# Altium schematic symbol library Connector.SchLib: 222 symbols (part 1 of 2)
Pins are listed as number, name and electrical type; pins without a type are passive.

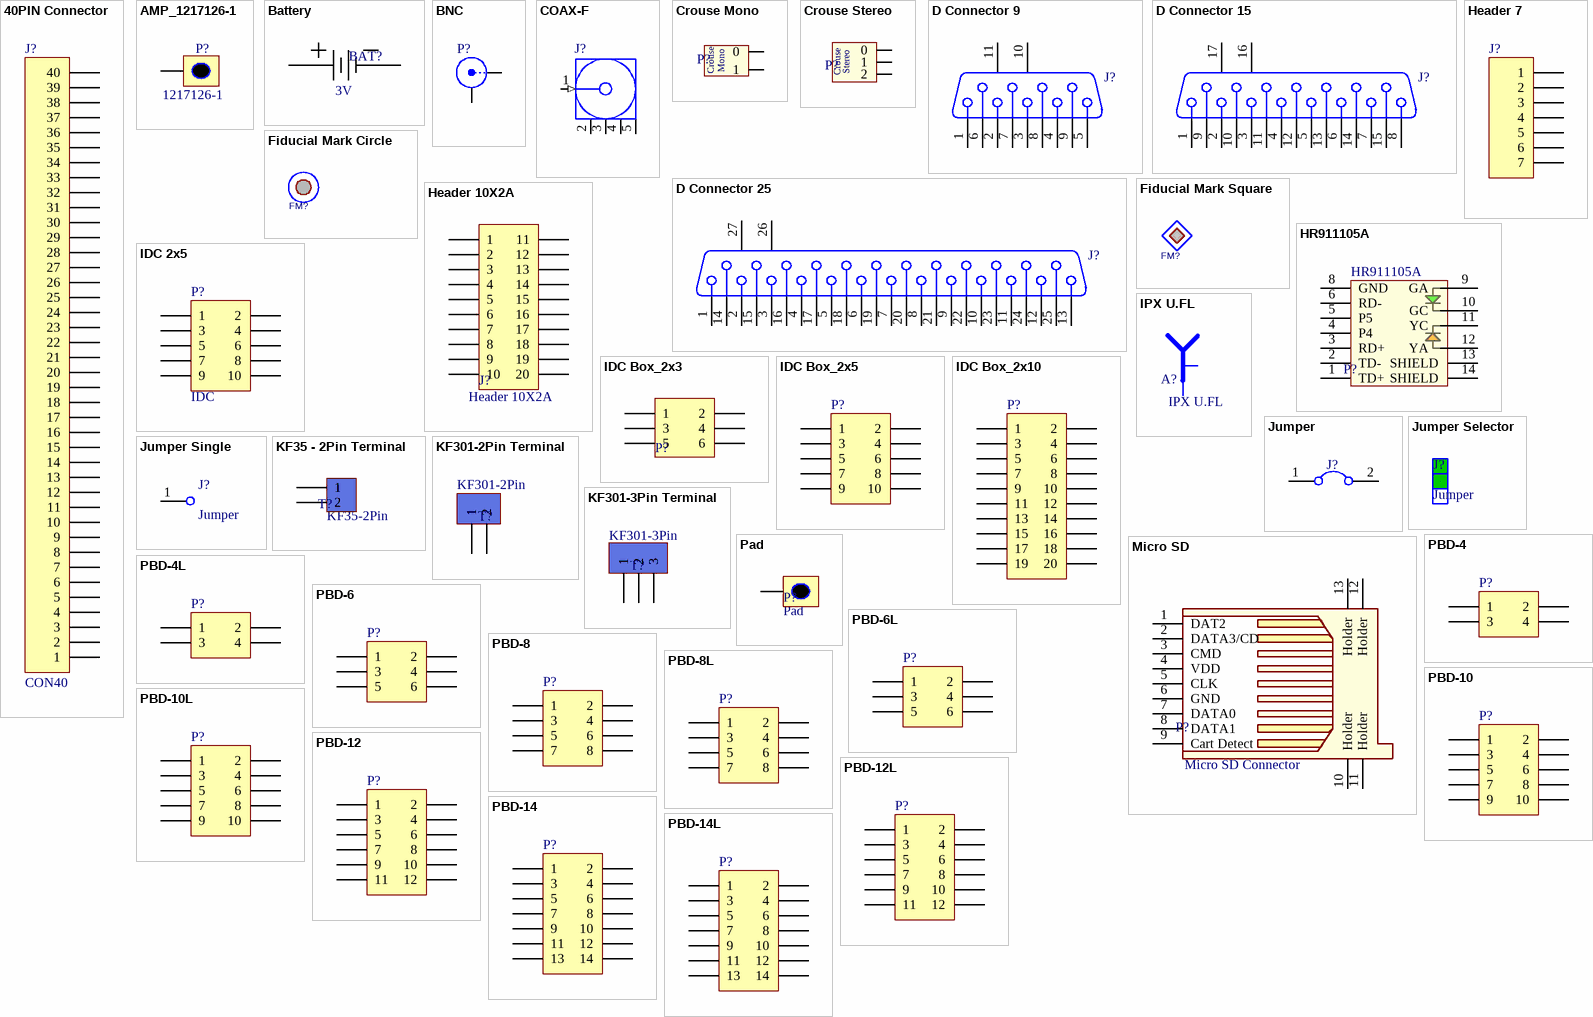
[diagram p0: symbols 40PIN Connector to PBD-14L]

## 40PIN Connector
designator J?, comment CON40
40 pin Automotive Connector; Value: CON40
footprint PARS_40PIN
pins: 1, 2, 3, 4, 5, 6, 7, 8, 9, 10, 11, 12, 13, 14, 15, 16, 17, 18, 19, 20, 21, 22, 23, 24, 25, 26, 27, 28, 29, 30, 31, 32, 33, 34, 35, 36, 37, 38, 39, 40

## AMP_1217126-1
designator P?, comment 1217126-1
AMP 0.250" (6.35mm) Quick Connect Male Solder Connector Non-Insulated; Specification: TE Connectivity FASTON 250 1217126-1 PCB TAB; PartNumber: 1217126-1; Temperature Range: -30°C to 110°C; Warehouse Number: *; Package: Through Hole
footprint AMP_Connector_1217126-1 (0.250" (6.35mm) Quick Connect Male Solder Connector Non-Insulated)
pins: 1

## Battery
designator BAT?, comment 3V
Battery 3V Backup; Value: 3V
footprint MS621 (Micro Li-ion rechargable battery)
footprint CR2032
pins: 0, 1

## BNC
designator P?
BNC Elbow Connector; LatestRevisionDate: 17-Jul-2002; LatestRevisionNote: Re-released for DXP Platform.; Publisher: Altium Limited
footprint BNC_RA CON (Connector; BNC Elbow)
signal-integrity model Connector
pins: 1 X, 2 Y

## COAX-F
designator J?
RF Coaxial PCB Connector, MCX; Thru-Hole, Right-Angle Mount Socket, Blunt Post Terminal, 50 Ohm Impedance; PCB_Layout: Complies with manufacturer's recommendation.; DrillSize: Corresponds to nominal value.; Published: 15-Jul-2004; LatestRevisionDate: 15-Jul-2004; LatestRevisionNote: Component Replaced.; DatasheetDocument: 30-May-2003; PackageDocument: 04-Jul-1999; PackageReference: 919-119J-51AX; Publisher: Altium Limited; ComponentLink1Description: Manufacturer Link; ComponentLink1URL: http://www.amphenolrf.com/
footprint MCX5.08-H5 (Connector; RF Coaxial, MCX, Thru-Hole; 5 Position; Right-Angle)
pins: 1 Signal (in) "Signal Pin", 2 GND (power), 3 GND (power), 4 GND (power), 5 GND (power)

## Crouse Mono
designator P?, comment Audio Connector Crouse Model  (value not drawn)
Audio Connector; Value: Audio Connector Crouse Model
footprint Crouse Mono
pins: 0, 1
text: Crouse; Mono

## Crouse Stereo
designator P?, comment Audio Connector Crouse Model  (value not drawn)
Audio Connector; Value: Audio Connector Crouse Model
footprint Crouse Streao
pins: 0, 1, 2
text: Crouse; Stereo

## D Connector 9
designator J?
Receptacle Assembly, 9 Position, Right Angle; PackageDocument: O; Positions: 9; Published: 15-Jun-2001; LatestRevisionDate: 17-Jul-2002; LatestRevisionNote: Re-released for DXP Platform.; DatasheetDocument: 1-Sep-1999; PackageReference: 788750; Publisher: Altium Limited; Orientation: Right Angle; Gender: Receptacle
footprint DSUB1.385-2H9 (Connector; D Subminiature; 9 Position; Right Angle; Pitch 1.385 mm)
signal-integrity model Connector
pins: 1, 2, 3, 4, 5, 6, 7, 8, 9, 10 MH1, 11 MH2

## D Connector 15
designator J?
Receptacle Assembly, 15 Position, Right Angle; PackageDocument: O; Positions: 15; Published: 15-Jun-2001; LatestRevisionDate: 17-Jul-2002; LatestRevisionNote: Re-released for DXP Platform.; DatasheetDocument: 1-Sep-99; PackageReference: 788757; Publisher: Altium Limited; Orientation: Right Angle; Gender: Receptacle
footprint DSUB1.385-2H15 (Connector; D Subminiature; 15 Position; Right Angle; Pitch 1.385 mm)
signal-integrity model Connector
pins: 1, 2, 3, 4, 5, 6, 7, 8, 9, 10, 11, 12, 13, 14, 15, 16 MH1, 17 MH2

## D Connector 25
designator J?
Receptacle Assembly, 25 Position, Right Angle; PackageDocument: U; Positions: 25; Published: 15-Jun-2001; LatestRevisionDate: 17-Jul-2002; LatestRevisionNote: Re-released for DXP Platform.; DatasheetDocument: 19-Mar-1999; PackageReference: 787202; Publisher: Altium Limited; Orientation: Right Angle; Gender: Receptacle
footprint DSUB1.385-2H25A (Connector; D Subminiature; 25 Position; Right Angle; Pitch 1.385 mm)
signal-integrity model Connector
pins: 1, 2, 3, 4, 5, 6, 7, 8, 9, 10, 11, 12, 13, 14, 15, 16, 17, 18, 19, 20, 21, 22, 23, 24, 25, 26 MH1, 27 MH2

## Fiducial Mark Circle
designator FM?  (value not drawn)  (no BOM)
Fiducial , Circle Fiducial 1.5mm,1.5mm; Type/Material: SMD; Component Name: Fiducial , Circle Fiducial 1.5mm; Size: 1.5mm; Status: Valid For SCH
footprint FIDUCIAL MARK CIRCLE

## Fiducial Mark Square
designator FM?, comment FIDUCIAL MARK SQUARE  (value not drawn)  (no BOM)
Fiducial , Square Fiducial 1.5mm,1.5mm; Type/Material: SMD; Component Name: Fiducial , Square Fiducial 1.5mm; Size: 1.5mm; Status: Valid For SCH
footprint FIDUCIAL MARK SQUARE

## Header 7
designator J?
Header, 7-Pin; LatestRevisionDate: 17-Jul-2002; LatestRevisionNote: Re-released for DXP Platform.; Publisher: Altium Limited
footprint 206_Header 7
pins: 1, 2, 3, 4, 5, 6, 7

## Header 10X2A
designator J?
Header, 10-Pin, Dual row; Value: Header 10X2A
footprint 206_Header 10X2A
pins: 1, 2, 3, 4, 5, 6, 7, 8, 9, 10, 11, 12, 13, 14, 15, 16, 17, 18, 19, 20

## HR911105A
designator P?
Value: HR911105A
footprint HR911105A
pins: 1 TD+, 2 TD-, 3 RD+, 4 P4, 5 P5, 6 RD-, 8 GND (power), 9 GA   , 10 GC   , 11 YC   , 12 YA   , 13 SHIELD, 14 SHIELD

## IDC 2x5
designator P?, comment IDC
Header, 5-Pin, Dual row; LatestRevisionDate: 17-Jul-2002; LatestRevisionNote: Re-released for DXP Platform.; Publisher: Altium Limited
signal-integrity model Connector
footprint IDC2.54-V10D (Connector; IDC, Low Profile Male Header, Thru-Hole; 10 Position; Vertical; Pitch 2.54 mm; Body 20.32 x 9.2 x 9.45 mm (LxWxH))
footprint IDC2.54-H10C (Connector; IDC, Low Profile Male Header, Thru-Hole; 10 Position; Right Angle; Pitch 2.54 mm; Body 20.32 x 8.9 x 9.2 mm (LxWxH))
pins: 1, 2, 3, 4, 5, 6, 7, 8, 9, 10

## IDC Box_2x3
designator P?, comment IDC-6MS(BH-6)  (value not drawn)
Header Box, 5-Pin, Dual row; LatestRevisionDate: 17-Jul-2002; LatestRevisionNote: Re-released for DXP Platform.; Publisher: Altium Limited
footprint -IDC_2X3 (IDC2X3 FOR PROGPIN AND JUMPER BOX AND ETC. DESIGNER ABBAS BASEREH)
footprint -IDC_2X3R (IDC2X3 FOR PROGPIN AND JUMPER BOX AND ETC. DESIGNER ABBAS BASEREH)
pins: 1, 2, 3, 4, 5, 6

## IDC Box_2x5
designator P?, comment IDC-10MS(BH-10)  (value not drawn)
Header Box, 5-Pin, Dual row; LatestRevisionDate: 17-Jul-2002; LatestRevisionNote: Re-released for DXP Platform.; Publisher: Altium Limited
footprint -IDC2.54-10PIN - CROSS (Connector; IDC, Low Profile Male Header, Thru-Hole; 10 Position; Vertical; Pitch 2.54 mm; 20.32 x 9.2 x 9.45 mm (LxWxH) DESIGNER : ABBAS BASEREH)
footprint -IDC2.54-10PIN (Connector; IDC, Low Profile Male Header, Thru-Hole; 10 Position; Vertical; Pitch 2.54 mm; 20.32 x 9.2 x 9.45 mm (LxWxH) DESIGNER : ABBAS BASEREH)
footprint -IDC2.54-10PIN WITH CABLE (Connector; IDC, Low Profile Male Header, Thru-Hole; 10 Position; Vertical; Pitch 2.54 mm; 20.32 x 9.2 x 9.45 mm (LxWxH) DESIGNER : ABBAS BASEREH)
pins: 1, 2, 3, 4, 5, 6, 7, 8, 9, 10

## IDC Box_2x10
designator P?, comment IDC-20MS(BH-20)  (value not drawn)
Header Box, 10-Pin, Dual row; LatestRevisionDate: 17-Jul-2002; LatestRevisionNote: Re-released for DXP Platform.; Publisher: Altium Limited
footprint -IDC2.54-BH-20 (Connector; Header; 10x2 Position)
pins: 1, 2, 3, 4, 5, 6, 7, 8, 9, 10, 11, 12, 13, 14, 15, 16, 17, 18, 19, 20

## IPX U.FL
designator A?
GSM Anttena; Value: IPX U.FL
footprint IPX U.FL
pins: 0, 1

## Jumper
designator J?  (value not drawn)
Jumper -; Company: E.P.I.L; Defualt State: Close; Design Date: 2011/11/02
footprint Jumper Small - 2.54 - BLUE
footprint Jumper Small - 2.54 - GRAY
footprint Jumper Small - 2.54 - RED
footprint Jumper Small - 2.54 - GRAY - Open
footprint Jumper SMD - Small
footprint Jumper 5mm (Designer Abbas Basereh)
footprint Jumper 4mm (Designer Abbas Basereh)
footprint Jumper 6mm (Designer Abbas Basereh)
footprint Jumper 8mm (Designer Abbas Basereh)
footprint Jumper 10mm (Designer Abbas Basereh)
pins: 1, 2

## Jumper Selector
designator J?, comment Jumper
Jumper Selector
footprint jumper selector
footprint Jumper Selector SMD
pins: 1, 2, 3

## Jumper Single
designator J?, comment Jumper
footprint Jumper SMD - single
pins: 1

## KF35 - 2Pin Terminal
designator T?, comment KF35-2Pin
Terminal 2 Pin 300V 20A; Value: KF35-2Pin
footprint KF 35 (KF8500)-2Pin
pins: 1, 2

## KF301-2Pin Terminal
designator T?, comment KF301-2Pin
Terminal 2 Pin 250VAC 16A; Value: KF301-2Pin
footprint KF301 2PIN (Designer Abbas Basereh)
pins: 1, 2

## KF301-3Pin Terminal
designator T?, comment KF301-3Pin
Terminal 3 Pin 250VAC 16A; Value: KF301-3Pin
footprint KF301 3PIN (Designer Abbas Basereh)
pins: 1, 2, 3

## Micro SD
designator P?, comment Micro SD Connector  (no BOM)
value: Micro SD Connector
footprint Micro SD
pins: 1 DAT2, 2 DATA3/CD, 3 CMD, 4 VDD, 5 CLK, 6 GND, 7 DATA0, 8 DATA1, 9 Cart Detect, 10 Holder, 11 Holder, 12 Holder, 13 Holder

## Pad
designator P?
THD pad, 1-Pin; Value: Pad
footprint Single Pad 2
footprint Single Pad 1
footprint Wire_SMD_ 0.5 (0.5 * 0.5)
footprint Wire_SMD_1 (1*1)
footprint Wire_SMD_ 1.5 (1.5 * 1.5)
footprint Wire_SMD_2 (2 * 2)
footprint FAN_SINGLE_PIN
footprint PCB Tab Male (6.35*8.00*14.00)
pins: 1

## PBD-4
designator P?  (value not drawn)
Header, 2-Pin, Dual row; LatestRevisionDate: 17-Jul-2002; LatestRevisionNote: Re-released for DXP Platform.; Publisher: Altium Limited
footprint PBD-4-3D (Connector; Header; 2x2 Position)
pins: 1, 2, 3, 4

## PBD-4L
designator P?  (value not drawn)
Header, 2-Pin, Dual row; LatestRevisionDate: 17-Jul-2002; LatestRevisionNote: Re-released for DXP Platform.; Publisher: Altium Limited
footprint PBD-4RL (Connector; Header; 2x2 Position)
pins: 1, 2, 3, 4

## PBD-6
designator P?  (value not drawn)
Header, 3-Pin, Dual row; LatestRevisionDate: 17-Jul-2002; LatestRevisionNote: Re-released for DXP Platform.; Publisher: Altium Limited
footprint PBD-6-3D (Connector; Header; 3x2 Position)
pins: 1, 2, 3, 4, 5, 6

## PBD-6L
designator P?  (value not drawn)
Header, 3-Pin, Dual row; LatestRevisionDate: 17-Jul-2002; LatestRevisionNote: Re-released for DXP Platform.; Publisher: Altium Limited
footprint PBD-6RL (Connector; Header; 3x2 Position)
pins: 1, 2, 3, 4, 5, 6

## PBD-8
designator P?  (value not drawn)
Header, 4-Pin, Dual row
footprint PBD-8-3D (Connector; Header; 4x2 Position)
pins: 1, 2, 3, 4, 5, 6, 7, 8

## PBD-8L
designator P?  (value not drawn)
Header, 4-Pin, Dual row
footprint PBD-8RL (Connector; Header; 4x2 Position)
pins: 1, 2, 3, 4, 5, 6, 7, 8

## PBD-10
designator P?  (value not drawn)
Header, 5-Pin, Dual row
footprint PBD-10-3D (Connector; Header; 5x2 Position)
pins: 1, 2, 3, 4, 5, 6, 7, 8, 9, 10

## PBD-10L
designator P?  (value not drawn)
Header, 5-Pin, Dual row
footprint PBD-10RL (Connector; Header; 5x2 Position)
pins: 1, 2, 3, 4, 5, 6, 7, 8, 9, 10

## PBD-12
designator P?  (value not drawn)
Header, 6-Pin, Dual row; LatestRevisionDate: 17-Jul-2002; LatestRevisionNote: Re-released for DXP Platform.; Publisher: Altium Limited
footprint PBD-12-3D (Connector; Header; 6x2 Position)
pins: 1, 2, 3, 4, 5, 6, 7, 8, 9, 10, 11, 12

## PBD-12L
designator P?  (value not drawn)
Header, 6-Pin, Dual row; LatestRevisionDate: 17-Jul-2002; LatestRevisionNote: Re-released for DXP Platform.; Publisher: Altium Limited
footprint PBD-12RL (Connector; Header; 6x2 Position)
pins: 1, 2, 3, 4, 5, 6, 7, 8, 9, 10, 11, 12

## PBD-14
designator P?  (value not drawn)
Header, 7-Pin, Dual row; LatestRevisionDate: 17-Jul-2002; LatestRevisionNote: Re-released for DXP Platform.; Publisher: Altium Limited
footprint PBD-14-3D (Connector; Header; 7x2 Position)
pins: 1, 2, 3, 4, 5, 6, 7, 8, 9, 10, 11, 12, 13, 14

## PBD-14L
designator P?  (value not drawn)
Header, 7-Pin, Dual row; LatestRevisionDate: 17-Jul-2002; LatestRevisionNote: Re-released for DXP Platform.; Publisher: Altium Limited
footprint PBD-14RL (Connector; Header; 7x2 Position)
pins: 1, 2, 3, 4, 5, 6, 7, 8, 9, 10, 11, 12, 13, 14

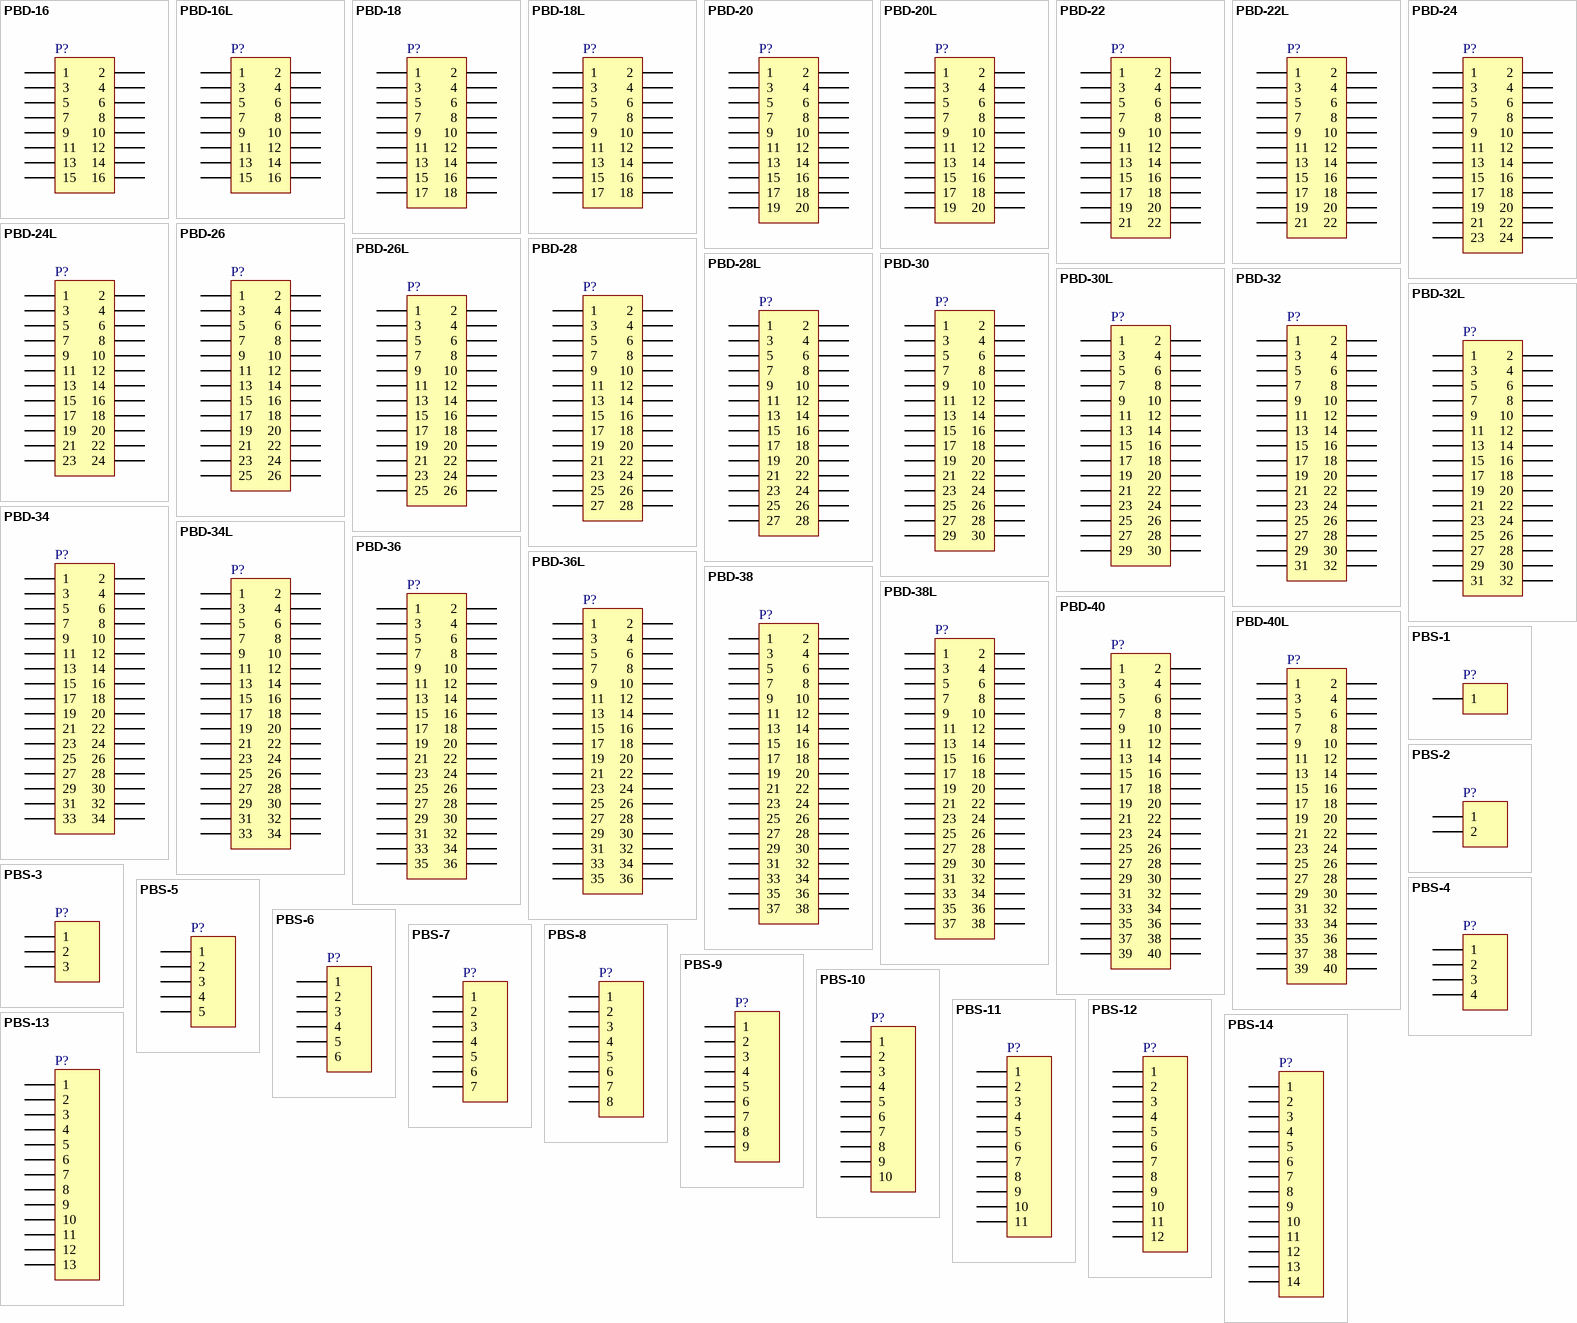
[diagram p1: symbols PBD-16 to PBS-14]

## PBD-16
designator P?  (value not drawn)
Header, 8-Pin, Dual row; LatestRevisionDate: 17-Jul-2002; LatestRevisionNote: Re-released for DXP Platform.; Publisher: Altium Limited
footprint PBD-16-3D (Connector; Header; 8x2 Position)
pins: 1, 2, 3, 4, 5, 6, 7, 8, 9, 10, 11, 12, 13, 14, 15, 16

## PBD-16L
designator P?  (value not drawn)
Header, 8-Pin, Dual row; LatestRevisionDate: 17-Jul-2002; LatestRevisionNote: Re-released for DXP Platform.; Publisher: Altium Limited
footprint PBD-16RL (Connector; Header; 8x2 Position)
pins: 1, 2, 3, 4, 5, 6, 7, 8, 9, 10, 11, 12, 13, 14, 15, 16

## PBD-18
designator P?  (value not drawn)
Header, 9-Pin, Dual row; LatestRevisionDate: 17-Jul-2002; LatestRevisionNote: Re-released for DXP Platform.; Publisher: Altium Limited
footprint PBD-18-3D (Connector; Header; 9x2 Position)
pins: 1, 2, 3, 4, 5, 6, 7, 8, 9, 10, 11, 12, 13, 14, 15, 16, 17, 18

## PBD-18L
designator P?  (value not drawn)
Header, 9-Pin, Dual row; LatestRevisionDate: 17-Jul-2002; LatestRevisionNote: Re-released for DXP Platform.; Publisher: Altium Limited
footprint PBD-18RL (Connector; Header; 9x2 Position)
pins: 1, 2, 3, 4, 5, 6, 7, 8, 9, 10, 11, 12, 13, 14, 15, 16, 17, 18

## PBD-20
designator P?  (value not drawn)
Header, 10-Pin, Dual row; LatestRevisionDate: 17-Jul-2002; LatestRevisionNote: Re-released for DXP Platform.; Publisher: Altium Limited
footprint PBD-20-3D (Connector; Header; 10x2 Position)
pins: 1, 2, 3, 4, 5, 6, 7, 8, 9, 10, 11, 12, 13, 14, 15, 16, 17, 18, 19, 20

## PBD-20L
designator P?  (value not drawn)
Header, 10-Pin, Dual row; LatestRevisionDate: 17-Jul-2002; LatestRevisionNote: Re-released for DXP Platform.; Publisher: Altium Limited
footprint PBD-20RL (Connector; Header; 10x2 Position)
pins: 1, 2, 3, 4, 5, 6, 7, 8, 9, 10, 11, 12, 13, 14, 15, 16, 17, 18, 19, 20

## PBD-22
designator P?  (value not drawn)
Header, 11-Pin, Dual row; LatestRevisionDate: 17-Jul-2002; LatestRevisionNote: Re-released for DXP Platform.; Publisher: Altium Limited
footprint PBD-22-3D (Connector; Header; 11x2 Position)
pins: 1, 2, 3, 4, 5, 6, 7, 8, 9, 10, 11, 12, 13, 14, 15, 16, 17, 18, 19, 20, 21, 22

## PBD-22L
designator P?  (value not drawn)
Header, 11-Pin, Dual row; LatestRevisionDate: 17-Jul-2002; LatestRevisionNote: Re-released for DXP Platform.; Publisher: Altium Limited
footprint PBD-22RL (Connector; Header; 11x2 Position)
pins: 1, 2, 3, 4, 5, 6, 7, 8, 9, 10, 11, 12, 13, 14, 15, 16, 17, 18, 19, 20, 21, 22

## PBD-24
designator P?  (value not drawn)
Header, 12-Pin, Dual row; LatestRevisionDate: 17-Jul-2002; LatestRevisionNote: Re-released for DXP Platform.; Publisher: Altium Limited
footprint PBD-24-3D (Connector; Header; 12x2 Position)
pins: 1, 2, 3, 4, 5, 6, 7, 8, 9, 10, 11, 12, 13, 14, 15, 16, 17, 18, 19, 20, 21, 22, 23, 24

## PBD-24L
designator P?  (value not drawn)
Header, 12-Pin, Dual row; LatestRevisionDate: 17-Jul-2002; LatestRevisionNote: Re-released for DXP Platform.; Publisher: Altium Limited
footprint PBD-24RL (Connector; Header; 12x2 Position)
pins: 1, 2, 3, 4, 5, 6, 7, 8, 9, 10, 11, 12, 13, 14, 15, 16, 17, 18, 19, 20, 21, 22, 23, 24

## PBD-26
designator P?  (value not drawn)
Header, 13-Pin, Dual row; LatestRevisionDate: 17-Jul-2002; LatestRevisionNote: Re-released for DXP Platform.; Publisher: Altium Limited
footprint PBD-26-3D (Connector; Header; 13x2 Position)
pins: 1, 2, 3, 4, 5, 6, 7, 8, 9, 10, 11, 12, 13, 14, 15, 16, 17, 18, 19, 20, 21, 22, 23, 24, 25, 26

## PBD-26L
designator P?  (value not drawn)
Header, 13-Pin, Dual row; LatestRevisionDate: 17-Jul-2002; LatestRevisionNote: Re-released for DXP Platform.; Publisher: Altium Limited
footprint PBD-26RL (Connector; Header; 13x2 Position)
pins: 1, 2, 3, 4, 5, 6, 7, 8, 9, 10, 11, 12, 13, 14, 15, 16, 17, 18, 19, 20, 21, 22, 23, 24, 25, 26

## PBD-28
designator P?  (value not drawn)
Header, 14-Pin, Dual row; LatestRevisionDate: 17-Jul-2002; LatestRevisionNote: Re-released for DXP Platform.; Publisher: Altium Limited
footprint PBD-28-3D (Connector; Header; 14x2 Position)
pins: 1, 2, 3, 4, 5, 6, 7, 8, 9, 10, 11, 12, 13, 14, 15, 16, 17, 18, 19, 20, 21, 22, 23, 24, 25, 26, 27, 28

## PBD-28L
designator P?  (value not drawn)
Header, 14-Pin, Dual row; LatestRevisionDate: 17-Jul-2002; LatestRevisionNote: Re-released for DXP Platform.; Publisher: Altium Limited
footprint PBD-28RL (Connector; Header; 14x2 Position)
pins: 1, 2, 3, 4, 5, 6, 7, 8, 9, 10, 11, 12, 13, 14, 15, 16, 17, 18, 19, 20, 21, 22, 23, 24, 25, 26, 27, 28

## PBD-30
designator P?  (value not drawn)
Header, 15-Pin, Dual row; LatestRevisionDate: 17-Jul-2002; LatestRevisionNote: Re-released for DXP Platform.; Publisher: Altium Limited
footprint PBD-30-3D (Connector; Header; 15x2 Position)
pins: 1, 2, 3, 4, 5, 6, 7, 8, 9, 10, 11, 12, 13, 14, 15, 16, 17, 18, 19, 20, 21, 22, 23, 24, 25, 26, 27, 28, 29, 30

## PBD-30L
designator P?  (value not drawn)
Header, 15-Pin, Dual row; LatestRevisionDate: 17-Jul-2002; LatestRevisionNote: Re-released for DXP Platform.; Publisher: Altium Limited
footprint PBD-30RL (Connector; Header; 15x2 Position)
pins: 1, 2, 3, 4, 5, 6, 7, 8, 9, 10, 11, 12, 13, 14, 15, 16, 17, 18, 19, 20, 21, 22, 23, 24, 25, 26, 27, 28, 29, 30

## PBD-32
designator P?  (value not drawn)
Header, 16-Pin, Dual row; LatestRevisionDate: 17-Jul-2002; LatestRevisionNote: Re-released for DXP Platform.; Publisher: Altium Limited
footprint PBD-32-3D (Connector; Header; 16x2 Position)
pins: 1, 2, 3, 4, 5, 6, 7, 8, 9, 10, 11, 12, 13, 14, 15, 16, 17, 18, 19, 20, 21, 22, 23, 24, 25, 26, 27, 28, 29, 30, 31, 32

## PBD-32L
designator P?  (value not drawn)
Header, 16-Pin, Dual row; LatestRevisionDate: 17-Jul-2002; LatestRevisionNote: Re-released for DXP Platform.; Publisher: Altium Limited
footprint PBD-32RL (Connector; Header; 16x2 Position)
pins: 1, 2, 3, 4, 5, 6, 7, 8, 9, 10, 11, 12, 13, 14, 15, 16, 17, 18, 19, 20, 21, 22, 23, 24, 25, 26, 27, 28, 29, 30, 31, 32

## PBD-34
designator P?  (value not drawn)
Header, 17-Pin, Dual row; LatestRevisionDate: 17-Jul-2002; LatestRevisionNote: Re-released for DXP Platform.; Publisher: Altium Limited
footprint PBD-34-3D (Connector; Header; 17x2 Position)
pins: 1, 2, 3, 4, 5, 6, 7, 8, 9, 10, 11, 12, 13, 14, 15, 16, 17, 18, 19, 20, 21, 22, 23, 24, 25, 26, 27, 28, 29, 30, 31, 32, 33, 34

## PBD-34L
designator P?  (value not drawn)
Header, 17-Pin, Dual row; LatestRevisionDate: 17-Jul-2002; LatestRevisionNote: Re-released for DXP Platform.; Publisher: Altium Limited
footprint PBD-34RL (Connector; Header; 17x2 Position)
pins: 1, 2, 3, 4, 5, 6, 7, 8, 9, 10, 11, 12, 13, 14, 15, 16, 17, 18, 19, 20, 21, 22, 23, 24, 25, 26, 27, 28, 29, 30, 31, 32, 33, 34

## PBD-36
designator P?  (value not drawn)
Header, 18-Pin, Dual row; LatestRevisionDate: 17-Jul-2002; LatestRevisionNote: Re-released for DXP Platform.; Publisher: Altium Limited
footprint PBD-36-3D (Connector; Header; 18x2 Position)
pins: 1, 2, 3, 4, 5, 6, 7, 8, 9, 10, 11, 12, 13, 14, 15, 16, 17, 18, 19, 20, 21, 22, 23, 24, 25, 26, 27, 28, 29, 30, 31, 32, 33, 34, 35, 36

## PBD-36L
designator P?  (value not drawn)
Header, 18-Pin, Dual row; LatestRevisionDate: 17-Jul-2002; LatestRevisionNote: Re-released for DXP Platform.; Publisher: Altium Limited
footprint PBD-36RL (Connector; Header; 18x2 Position)
pins: 1, 2, 3, 4, 5, 6, 7, 8, 9, 10, 11, 12, 13, 14, 15, 16, 17, 18, 19, 20, 21, 22, 23, 24, 25, 26, 27, 28, 29, 30, 31, 32, 33, 34, 35, 36

## PBD-38
designator P?  (value not drawn)
Header, 19-Pin, Dual row; LatestRevisionDate: 17-Jul-2002; LatestRevisionNote: Re-released for DXP Platform.; Publisher: Altium Limited
footprint PBD-38-3D (Connector; Header; 19x2 Position)
pins: 1, 2, 3, 4, 5, 6, 7, 8, 9, 10, 11, 12, 13, 14, 15, 16, 17, 18, 19, 20, 21, 22, 23, 24, 25, 26, 27, 28, 29, 30, 31, 32, 33, 34, 35, 36, 37, 38

## PBD-38L
designator P?  (value not drawn)
Header, 19-Pin, Dual row; LatestRevisionDate: 17-Jul-2002; LatestRevisionNote: Re-released for DXP Platform.; Publisher: Altium Limited
footprint PBD-38RL (Connector; Header; 19x2 Position)
pins: 1, 2, 3, 4, 5, 6, 7, 8, 9, 10, 11, 12, 13, 14, 15, 16, 17, 18, 19, 20, 21, 22, 23, 24, 25, 26, 27, 28, 29, 30, 31, 32, 33, 34, 35, 36, 37, 38

## PBD-40
designator P?  (value not drawn)
Header, 20-Pin, Dual row; LatestRevisionDate: 17-Jul-2002; LatestRevisionNote: Re-released for DXP Platform.; Publisher: Altium Limited
footprint PBD-40-3D (Connector; Header; 20x2 Position)
pins: 1, 2, 3, 4, 5, 6, 7, 8, 9, 10, 11, 12, 13, 14, 15, 16, 17, 18, 19, 20, 21, 22, 23, 24, 25, 26, 27, 28, 29, 30, 31, 32, 33, 34, 35, 36, 37, 38, 39, 40

## PBD-40L
designator P?  (value not drawn)
Header, 20-Pin, Dual row; LatestRevisionDate: 17-Jul-2002; LatestRevisionNote: Re-released for DXP Platform.; Publisher: Altium Limited
footprint PBD-40RL (Connector; Header; 20x2 Position)
pins: 1, 2, 3, 4, 5, 6, 7, 8, 9, 10, 11, 12, 13, 14, 15, 16, 17, 18, 19, 20, 21, 22, 23, 24, 25, 26, 27, 28, 29, 30, 31, 32, 33, 34, 35, 36, 37, 38, 39, 40

## PBS-1
designator P?  (value not drawn)
Header, 1-Pin; LatestRevisionDate: 17-Jul-2002; LatestRevisionNote: Re-released for DXP Platform.; Publisher: Altium Limited
footprint PBS-1-3D (Connector; Header; 1 Position)
pins: 1

## PBS-2
designator P?  (value not drawn)
Header, 2-Pin; LatestRevisionDate: 17-Jul-2002; LatestRevisionNote: Re-released for DXP Platform.; Publisher: Altium Limited
footprint PBS-2-3D (Connector; Header; 2 Position)
pins: 1, 2

## PBS-3
designator P?  (value not drawn)
Header, 3-Pin; LatestRevisionDate: 17-Jul-2002; LatestRevisionNote: Re-released for DXP Platform.; Publisher: Altium Limited
footprint PBS-3-3D (Connector; Header; 3 Position)
pins: 1, 2, 3

## PBS-4
designator P?  (value not drawn)
Header, 4-Pin; LatestRevisionDate: 17-Jul-2002; LatestRevisionNote: Re-released for DXP Platform.; Publisher: Altium Limited
footprint PBS-4-3D (Connector; Header; 4 Position)
pins: 1, 2, 3, 4

## PBS-5
designator P?  (value not drawn)
Header, 5-Pin; LatestRevisionDate: 17-Jul-2002; LatestRevisionNote: Re-released for DXP Platform.; Publisher: Altium Limited
footprint PBS-5-3D (Connector; Header; 5 Position)
pins: 1, 2, 3, 4, 5

## PBS-6
designator P?  (value not drawn)
Header, 6-Pin; LatestRevisionDate: 17-Jul-2002; LatestRevisionNote: Re-released for DXP Platform.; Publisher: Altium Limited
footprint PBS-6-3D (Connector; Header; 6 Position)
pins: 1, 2, 3, 4, 5, 6

## PBS-7
designator P?  (value not drawn)
Header, 7-Pin; LatestRevisionDate: 17-Jul-2002; LatestRevisionNote: Re-released for DXP Platform.; Publisher: Altium Limited
footprint PBS-7-3D (Connector; Header; 7 Position)
pins: 1, 2, 3, 4, 5, 6, 7

## PBS-8
designator P?  (value not drawn)
Header, 8-Pin; LatestRevisionDate: 17-Jul-2002; LatestRevisionNote: Re-released for DXP Platform.; Publisher: Altium Limited
footprint PBS-8-3D (Connector; Header; 8 Position)
pins: 1, 2, 3, 4, 5, 6, 7, 8

## PBS-9
designator P?  (value not drawn)
Header, 9-Pin; LatestRevisionDate: 17-Jul-2002; LatestRevisionNote: Re-released for DXP Platform.; Publisher: Altium Limited
footprint PBS-9-3D (Connector; Header; 9 Position)
pins: 1, 2, 3, 4, 5, 6, 7, 8, 9

## PBS-10
designator P?  (value not drawn)
Header, 10-Pin; LatestRevisionDate: 17-Jul-2002; LatestRevisionNote: Re-released for DXP Platform.; Publisher: Altium Limited
footprint PBS-10-3D (Connector; Header; 10 Position)
pins: 1, 2, 3, 4, 5, 6, 7, 8, 9, 10

## PBS-11
designator P?  (value not drawn)
Header, 11-Pin; LatestRevisionDate: 17-Jul-2002; LatestRevisionNote: Re-released for DXP Platform.; Publisher: Altium Limited
footprint PBS-11-3D (Connector; Header; 11 Position)
pins: 1, 2, 3, 4, 5, 6, 7, 8, 9, 10, 11

## PBS-12
designator P?  (value not drawn)
Header, 12-Pin; LatestRevisionDate: 17-Jul-2002; LatestRevisionNote: Re-released for DXP Platform.; Publisher: Altium Limited
footprint PBS-12-3D (Connector; Header; 12 Position)
pins: 1, 2, 3, 4, 5, 6, 7, 8, 9, 10, 11, 12

## PBS-13
designator P?  (value not drawn)
Header, 13-Pin; LatestRevisionDate: 17-Jul-2002; LatestRevisionNote: Re-released for DXP Platform.; Publisher: Altium Limited
footprint PBS-13-3D (Connector; Header; 13 Position)
pins: 1, 2, 3, 4, 5, 6, 7, 8, 9, 10, 11, 12, 13

## PBS-14
designator P?  (value not drawn)
Header, 14-Pin; LatestRevisionDate: 17-Jul-2002; LatestRevisionNote: Re-released for DXP Platform.; Publisher: Altium Limited
footprint PBS-14-3D (Connector; Header; 14 Position)
pins: 1, 2, 3, 4, 5, 6, 7, 8, 9, 10, 11, 12, 13, 14

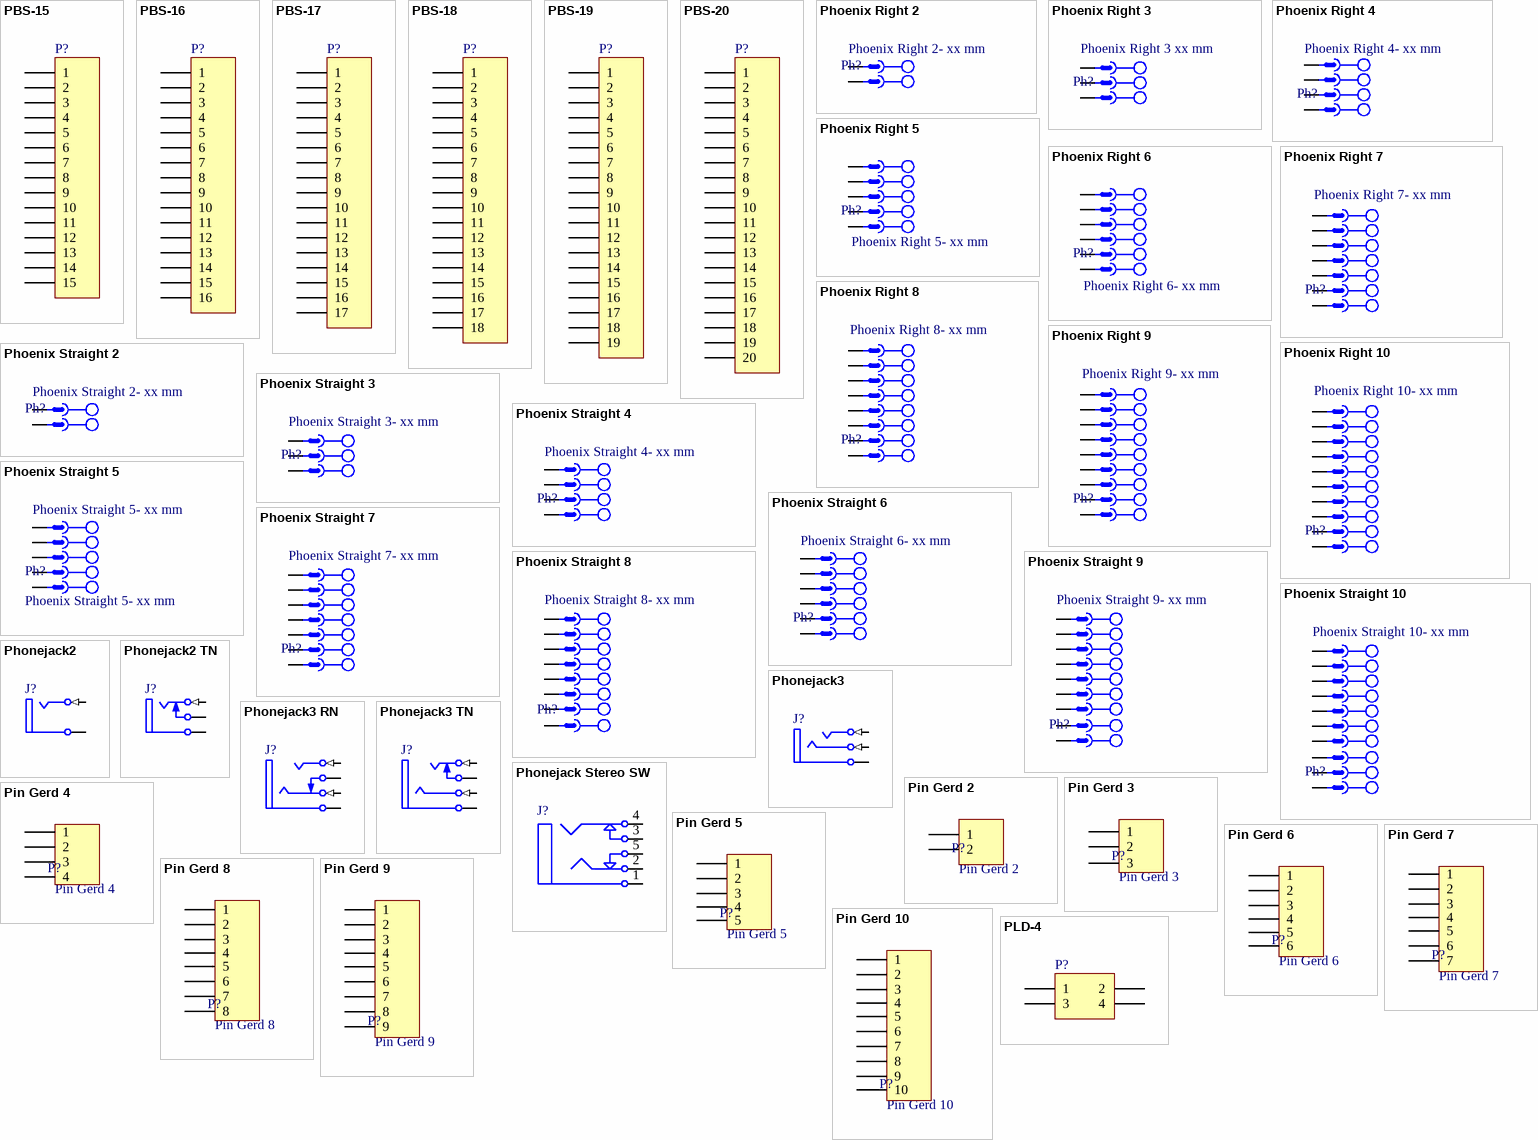
[diagram p2: symbols PBS-15 to PLD-4]

## PBS-15
designator P?  (value not drawn)
Header, 15-Pin; LatestRevisionDate: 17-Jul-2002; LatestRevisionNote: Re-released for DXP Platform.; Publisher: Altium Limited
footprint PBS-15-3D (Connector; Header; 15 Position)
pins: 1, 2, 3, 4, 5, 6, 7, 8, 9, 10, 11, 12, 13, 14, 15

## PBS-16
designator P?  (value not drawn)
Header, 16-Pin; LatestRevisionDate: 17-Jul-2002; LatestRevisionNote: Re-released for DXP Platform.; Publisher: Altium Limited
footprint PBS-16-3D (Connector; Header; 16 Position)
pins: 1, 2, 3, 4, 5, 6, 7, 8, 9, 10, 11, 12, 13, 14, 15, 16

## PBS-17
designator P?  (value not drawn)
Header, 17-Pin; LatestRevisionDate: 17-Jul-2002; LatestRevisionNote: Re-released for DXP Platform.; Publisher: Altium Limited
footprint PBS-17-3D (Connector; Header; 17 Position)
pins: 1, 2, 3, 4, 5, 6, 7, 8, 9, 10, 11, 12, 13, 14, 15, 16, 17

## PBS-18
designator P?  (value not drawn)
Header, 18-Pin; LatestRevisionDate: 17-Jul-2002; LatestRevisionNote: Re-released for DXP Platform.; Publisher: Altium Limited
footprint PBS-18-3D (Connector; Header; 18 Position)
pins: 1, 2, 3, 4, 5, 6, 7, 8, 9, 10, 11, 12, 13, 14, 15, 16, 17, 18

## PBS-19
designator P?  (value not drawn)
Header, 19-Pin; LatestRevisionDate: 17-Jul-2002; LatestRevisionNote: Re-released for DXP Platform.; Publisher: Altium Limited
footprint PBS-19-3D (Connector; Header; 19 Position)
pins: 1, 2, 3, 4, 5, 6, 7, 8, 9, 10, 11, 12, 13, 14, 15, 16, 17, 18, 19

## PBS-20
designator P?  (value not drawn)
Header, 20-Pin; LatestRevisionDate: 17-Jul-2002; LatestRevisionNote: Re-released for DXP Platform.; Publisher: Altium Limited
footprint PBS-20-3D (Connector; Header; 20 Position)
pins: 1, 2, 3, 4, 5, 6, 7, 8, 9, 10, 11, 12, 13, 14, 15, 16, 17, 18, 19, 20

## Phoenix Right 2
designator Ph?, comment Phoenix Right 2- xx mm
320 V_12 A; VALUE: Phoenix Right 2- xx mm
footprint MSTB 2,5/2-G-5,08 (Header, Nominal current: 12 A Rated voltage (III/2): 320 V Number of positions: 2 Pitch: 5.08 mm Color: green Contact surface: Tin Assembly: Soldering DESIGNER:ABBAS BASEREH)
footprint MC 1,5/ 2-G-3,81
pins: 1, 2

## Phoenix Right 3
designator Ph?, comment Phoenix Right 3 xx mm
320 V_12 A; VALUE: Phoenix Right 3 xx mm
footprint MSTB 2,5/3-G-5,08 (Header, Nominal current: 12 A Rated voltage (III/2): 320 V Number of positions: 3 Pitch: 5.08 mm Color: green Contact surface: Tin Assembly: Soldering  DESIGNER:ABBAS BASEREH)
footprint MC 1,5/ 3-G-3,81
pins: 1, 2, 3

## Phoenix Right 4
designator Ph?, comment Phoenix Right 4- xx mm
320 V_12 A; VALUE: Phoenix Right 4- xx mm
footprint MSTB 2,5/4-G-5,08 (Header, Nominal current: 12 A Rated voltage (III/2): 320 V Number of positions: 4 Pitch: 5,08 mm Color: green Contact surface: Tin Assembly: Soldering  DESIGNER ABBAS BASEREH)
footprint MC 1,5/ 4-G-3,81
pins: 1, 2, 3, 4

## Phoenix Right 5
designator Ph?, comment Phoenix Right 5- xx mm
320 V_12 A; VALUE: Phoenix Right 5- xx mm
footprint MC 1,5/ 5-G-3,81
footprint MSTB 2,5/5-G-5,08 (Header, Nominal current: 12 A Rated voltage (III/2): 320 V Number of positions: 5 Pitch: 5,08 mm Color: green Contact surface: Tin Assembly: Soldering  DESIGNER ABBAS BASEREH)
pins: 1, 2, 3, 4, 5

## Phoenix Right 6
designator Ph?, comment Phoenix Right 6- xx mm
320 V_12 A; VALUE: Phoenix Right 6- xx mm
footprint MC 1,5/ 6-G-3,81
footprint MSTB 2,5/6-G-5,08 (Header, Nominal current: 12 A Rated voltage (III/2): 320 V Number of positions: 6 Pitch: 5,08 mm Color: green Contact surface: Tin Assembly: Soldering  DESIGNER ABBAS BASEREH)
pins: 1, 2, 3, 4, 5, 6

## Phoenix Right 7
designator Ph?, comment Phoenix Right 7- xx mm
320 V_12 A; Value: Phoenix Right 7- xx mm
footprint MC 1,5/ 7-G-3,81
pins: 1, 2, 3, 4, 5, 6, 7

## Phoenix Right 8
designator Ph?, comment Phoenix Right 8- xx mm
320 V_12 A; Value: Phoenix Right 8- xx mm
footprint MC 1,5/ 8-G-3,81
pins: 1, 2, 3, 4, 5, 6, 7, 8

## Phoenix Right 9
designator Ph?, comment Phoenix Right 9- xx mm
320 V_12 A; Value: Phoenix Right 9- xx mm
footprint MSTB 2,5/9-G-5,08 (Header, Nominal current: 12 A Rated voltage (III/2): 320 V Number of positions: 6 Pitch: 5,08 mm Color: green Contact surface: Tin Assembly: Soldering  DESIGNER ABBAS BASEREH)
footprint MC 1,5/ 9-G-3,81
pins: 1, 2, 3, 4, 5, 6, 7, 8, 9

## Phoenix Right 10
designator Ph?, comment Phoenix Right 10- xx mm
320 V_12 A; Value: Phoenix Right 10- xx mm
footprint MC 1,5/ 10-G-3,81
pins: 1, 2, 3, 4, 5, 6, 7, 8, 9, 10

## Phoenix Straight 2
designator Ph?, comment Phoenix Straight 2- xx mm
320 V_12 A; VALUE: Phoenix Straight 2- xx mm
footprint MSTBV 2,5/2-G-5 (Header, Nominal current: 12 A Rated voltage (III/2): 320 V Number of positions: 2 Pitch: 5mm Color: green Contact surface: Tin Assembly: Soldering DESIGNER:ABBAS BASEREH)
footprint MCV 1,5/ 2-G-3,81
pins: 1, 2

## Phoenix Straight 3
designator Ph?, comment Phoenix Straight 3- xx mm
320 V_12 A; VALUE: Phoenix Straight 3- xx mm
footprint MSTBV 2,5/3-G-5 (Header, Nominal current: 12 A Rated voltage (III/2): 320 V Number of positions: 3 Pitch: 5mm Color: green Contact surface: Tin Assembly: Soldering  DESIGNER:ABBAS BASEREH)
footprint MCV 1,5/ 3-G-3,81
pins: 1, 2, 3

## Phoenix Straight 4
designator Ph?, comment Phoenix Straight 4- xx mm
320 V_12 A; VALUE: Phoenix Straight 4- xx mm
footprint MSTBV 2,5/4-G-5 (Header, Nominal current: 12 A Rated voltage (III/2): 320 V Number of positions: 4 Pitch: 5mm Color: green Contact surface: Tin Assembly: Soldering  DESIGNER ABBAS BASEREH)
footprint MCV 1,5/ 4-G-3,81
pins: 1, 2, 3, 4

## Phoenix Straight 5
designator Ph?, comment Phoenix Straight 5- xx mm
320 V_12 A; VALUE: Phoenix Straight 5- xx mm
footprint MSTBV 2,5/5-G-5 (Header, Nominal current: 12 A Rated voltage (III/2): 320 V Number of positions: 5 Pitch: 5mm Color: green Contact surface: Tin Assembly: Soldering  DESIGNER ABBAS BASEREH)
footprint MCV 1,5/ 5-G-3,81
pins: 1, 2, 3, 4, 5

## Phoenix Straight 6
designator Ph?, comment Phoenix Straight 6- xx mm
320 V_12 A; VALUE: Phoenix Straight 6- xx mm
footprint MSTBV 2,5/6-G-5 (Header, Nominal current: 12 A Rated voltage (III/2): 320 V Number of positions: 6 Pitch: 5mm Color: green Contact surface: Tin Assembly: Soldering  DESIGNER ABBAS BASEREH)
footprint MCV 1,5/ 6-G-3,81
pins: 1, 2, 3, 4, 5, 6

## Phoenix Straight 7
designator Ph?, comment Phoenix Straight 7- xx mm
320 V_12 A; Value: Phoenix Straight 7- xx mm
footprint MCV 1,5/ 7-G-3,81
pins: 1, 2, 3, 4, 5, 6, 7

## Phoenix Straight 8
designator Ph?, comment Phoenix Straight 8- xx mm
320 V_12 A; Value: Phoenix Straight 8- xx mm
footprint MCV 1,5/ 8-G-3,81
pins: 1, 2, 3, 4, 5, 6, 7, 8

## Phoenix Straight 9
designator Ph?, comment Phoenix Straight 9- xx mm
320 V_12 A; Value: Phoenix Straight 9- xx mm
footprint MSTBV 2,5/9-G-5 (Header, Nominal current: 12 A Rated voltage (III/2): 320 V Number of positions: 6 Pitch: 5mm Color: green Contact surface: Tin Assembly: Soldering  DESIGNER ABBAS BASEREH)
footprint MCV 1,5/ 9-G-3,81
pins: 1, 2, 3, 4, 5, 6, 7, 8, 9

## Phoenix Straight 10
designator Ph?, comment Phoenix Straight 10- xx mm
320 V_12 A; Value: Phoenix Straight 10- xx mm
footprint MCV 1,5/ 10-G-3,81
pins: 1, 2, 3, 4, 5, 6, 7, 8, 9, 10

## Phonejack2
designator J?
Jack Socket, 1/4" [6.5mm], Thru-Hole, Vertical, 2-Conductor Open Circuit; PackageDocument: 2003; PCB_Layout: Complies with manufacturer's recommendation.; DrillAndSlotSize: Corresponds to nominal value.; LatestRevisionDate: 15-Jul-2004; LatestRevisionNote: Component Replaced.; DatasheetDocument: 2003; PackageReference: S1VS_SNS; Publisher: Altium Limited; ComponentLink1Description: Manufacturer Link; ComponentLink1URL: http://www.cliffuk.co.uk/
footprint JACK/6-V2 (Connector; Jack Socket, 1/4" [6.5mm], Thru-Hole, 2 Position, Vertical, Body 15.7 x 15.7 x 31 mm (WxTxH))
signal-integrity model JACK Socket
pins: 1 T (in) "Tip", 5 S (power) "Sleeve (Ground)"

## Phonejack2 TN
designator J?
Jack Socket, 1/4" [6.5mm], Thru-Hole, Vertical, 2-Conductor with Tip closed; PackageDocument: 2003; PCB_Layout: Complies with manufacturer's recommendation.; DrillAndSlotSize: Corresponds to nominal value.; LatestRevisionDate: 15-Jul-2004; LatestRevisionNote: Component Replaced & renamed from "Phonejack".; DatasheetDocument: 2003; PackageReference: S1VS_SNB; Publisher: Altium Limited; ComponentLink1Description: Manufacturer Link; ComponentLink1URL: http://www.cliffuk.co.uk/
footprint JACK/6-V3A (Connector; Jack Socket, 1/4" [6.5mm], Thru-Hole, 3 Position, Vertical, Body 15.7 x 15.7 x 31 mm (WxTxH))
signal-integrity model JACK Socket
pins: 1 T (in) "Tip", 2 TN "Tip Normal (Break Contact)", 5 S (power) "Sleeve (Ground)"

## Phonejack3
designator J?
Jack Socket, 1/4" [6.5mm], Thru-Hole, Vertical, 3-Conductor Open Circuit (Non-Normalling); PackageDocument: 2003; PCB_Layout: Complies with manufacturer's recommendation.; DrillAndSlotSize: Corresponds to nominal value.; Published: 15-Jul-2004; LatestRevisionDate: 15-Jul-2004; LatestRevisionNote: Component Replaced.; DatasheetDocument: 2003; PackageReference: S1VS_SSS; Publisher: Altium Limited; ComponentLink1Description: Manufacturer Link; ComponentLink1URL: http://www.cliffuk.co.uk/
footprint JACK/6-V3 (Connector; Jack Socket, 1/4" [6.5mm], Thru-Hole, 3 Position, Vertical, Body 15.7 x 15.7 x 31 mm (WxTxH))
signal-integrity model JACK Socket
pins: 1 T (in) "Tip/Left Channel/(+)", 3 R (in) "Ring/Right Channel/(-)", 5 S (power) "Sleeve (Ground)"

## Phonejack3 RN
designator J?
Jack Socket, 1/4" [6.5mm], Thru-Hole, Vertical, 3-Conductor with Tip open & Ring closed; PackageDocument: 2003; PCB_Layout: Complies with manufacturer's recommendation.; DrillAndSlotSize: Corresponds to nominal value.; Published: 15-Jul-2004; DatasheetDocument: 2003; PackageReference: S1VS_SBS; Publisher: Altium Limited; ComponentLink1Description: Manufacturer Link; ComponentLink1URL: http://www.cliffuk.co.uk/
footprint JACK/6-V4A (Footprint not found)
signal-integrity model JACK Socket
pins: 1 T (in) "Tip/Left Channel/(+)", 3 R (in) "Ring/Right Channel/(-)", 4 RN "Ring Normal (Break Contact)", 5 S (power) "Sleeve (Ground)"

## Phonejack3 TN
designator J?
Jack Socket, 1/4" [6.5mm], Thru-Hole, Vertical, 3-Conductor with Tip closed & Ring open; PackageDocument: 2003; PCB_Layout: Complies with manufacturer's recommendation.; DrillAndSlotSize: Corresponds to nominal value.; Published: 15-Jul-2004; DatasheetDocument: 2003; PackageReference: S1VS_SSB; Publisher: Altium Limited; ComponentLink1Description: Manufacturer Link; ComponentLink1URL: http://www.cliffuk.co.uk/
footprint JACK/6-V4 (Connector; Jack Socket, 1/4" [6.5mm], Thru-Hole, 4 Position, Vertical, Body 15.7 x 15.7 x 31 mm (WxTxH))
signal-integrity model JACK Socket
pins: 1 T (in) "Tip/Left Channel/(+)", 2 TN "Tip Normal (Break Contact)", 3 R (in) "Ring/Right Channel/(-)", 5 S (power) "Sleeve (Ground)"

## Phonejack Stereo SW
designator J?
3-Conductor Jack with 2 break contacts (normals) and 2 auxiliary make contacts; ComponentLink1Description: Manufacturer Link; ComponentLink1URL: http://domino.kycon.com/internet/Products.html
pins: 1, 1A, 1B, 2, 2A, 2B, 3, 3A, 3B, 4, 4A, 4B, 5, 5A, 5B

## Pin Gerd 2
designator P?
Stright; VALUE: Pin Gerd 2
footprint Pin Gerd S 2 (Stright)
pins: 1, 2

## Pin Gerd 3
designator P?
Stright; VALUE: Pin Gerd 3
footprint Pin Gerd S 3 (Stright)
pins: 1, 2, 3

## Pin Gerd 4
designator P?
Stright; VALUE: Pin Gerd 4
footprint Pin Gerd S 4 (Stright)
pins: 1, 2, 3, 4

## Pin Gerd 5
designator P?
Stright; VALUE: Pin Gerd 5
footprint Pin Gerd S 5 (Stright)
pins: 1, 2, 3, 4, 5

## Pin Gerd 6
designator P?
Stright; VALUE: Pin Gerd 6
footprint Pin Gerd S 6 (Stright)
footprint PARS_PROGRAMMER_6PIN
pins: 1, 2, 3, 4, 5, 6

## Pin Gerd 7
designator P?
Stright; VALUE: Pin Gerd 7
footprint Pin Gerd S 7 (Stright)
pins: 1, 2, 3, 4, 5, 6, 7

## Pin Gerd 8
designator P?
Stright; VALUE: Pin Gerd 8
footprint Pin Gerd S 8 (Stright)
pins: 1, 2, 3, 4, 5, 6, 7, 8

## Pin Gerd 9
designator P?
Stright; VALUE: Pin Gerd 9
footprint Pin Gerd S 9 (Stright)
pins: 1, 2, 3, 4, 5, 6, 7, 8, 9

## Pin Gerd 10
designator P?
Stright; VALUE: Pin Gerd 10
footprint Pin Gerd S 10 (Stright)
pins: 1, 2, 3, 4, 5, 6, 7, 8, 9, 10

## PLD-4
designator P?  (value not drawn)
Header, 2-Pin, Dual row; LatestRevisionDate: 17-Jul-2002; LatestRevisionNote: Re-released for DXP Platform.; Publisher: Altium Limited
footprint PLD-4-3D (Connector; Header; 2x2 Position)
pins: 1, 2, 3, 4

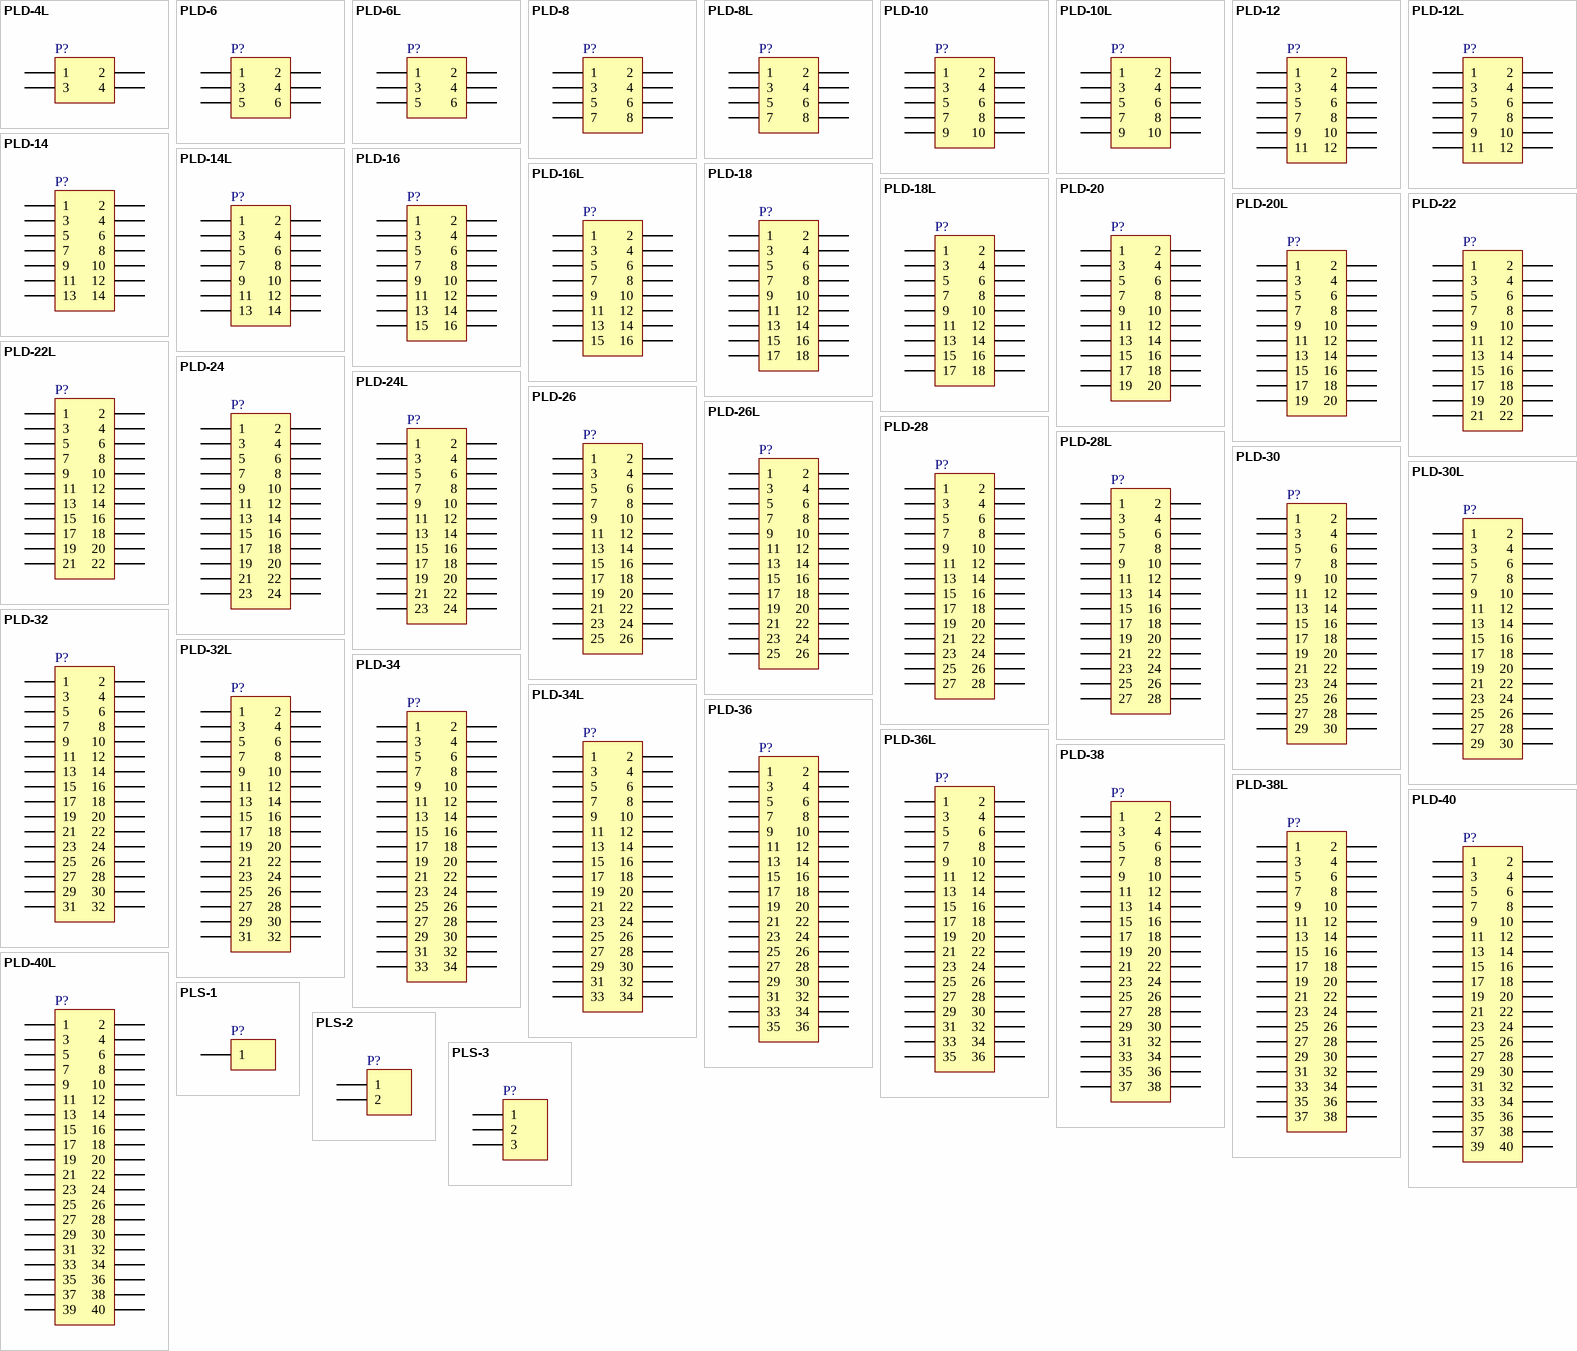
[diagram p3: symbols PLD-4L to PLS-3]

## PLD-4L
designator P?  (value not drawn)
Header, 2-Pin, Dual row; LatestRevisionDate: 17-Jul-2002; LatestRevisionNote: Re-released for DXP Platform.; Publisher: Altium Limited
footprint PLD-4RL1 (Connector; Header; 2x2 Position)
pins: 1, 2, 3, 4

## PLD-6
designator P?  (value not drawn)
Header, 3-Pin, Dual row; LatestRevisionDate: 17-Jul-2002; LatestRevisionNote: Re-released for DXP Platform.; Publisher: Altium Limited
footprint PLD-6-3D (Connector; Header; 3x2 Position)
pins: 1, 2, 3, 4, 5, 6

## PLD-6L
designator P?  (value not drawn)
Header, 3-Pin, Dual row; LatestRevisionDate: 17-Jul-2002; LatestRevisionNote: Re-released for DXP Platform.; Publisher: Altium Limited
footprint PLD-6RL1 (Connector; Header; 3x2 Position)
pins: 1, 2, 3, 4, 5, 6

## PLD-8
designator P?  (value not drawn)
Header, 4-Pin, Dual row
footprint PLD-8-3D (Connector; Header; 4x2 Position)
pins: 1, 2, 3, 4, 5, 6, 7, 8

## PLD-8L
designator P?  (value not drawn)
Header, 4-Pin, Dual row
footprint PLD-8RL1 (Connector; Header; 4x2 Position)
pins: 1, 2, 3, 4, 5, 6, 7, 8

## PLD-10
designator P?  (value not drawn)
Header, 5-Pin, Dual row
footprint PLD-10-3D (Connector; Header; 5x2 Position)
pins: 1, 2, 3, 4, 5, 6, 7, 8, 9, 10

## PLD-10L
designator P?  (value not drawn)
Header, 5-Pin, Dual row
footprint PLD-10RL1 (Connector; Header; 5x2 Position)
pins: 1, 2, 3, 4, 5, 6, 7, 8, 9, 10

## PLD-12
designator P?  (value not drawn)
Header, 6-Pin, Dual row; LatestRevisionDate: 17-Jul-2002; LatestRevisionNote: Re-released for DXP Platform.; Publisher: Altium Limited
footprint PLD-12-3D (Connector; Header; 6x2 Position)
pins: 1, 2, 3, 4, 5, 6, 7, 8, 9, 10, 11, 12

## PLD-12L
designator P?  (value not drawn)
Header, 6-Pin, Dual row; LatestRevisionDate: 17-Jul-2002; LatestRevisionNote: Re-released for DXP Platform.; Publisher: Altium Limited
footprint PLD-12RL1 (Connector; Header; 6x2 Position)
pins: 1, 2, 3, 4, 5, 6, 7, 8, 9, 10, 11, 12

## PLD-14
designator P?  (value not drawn)
Header, 7-Pin, Dual row; LatestRevisionDate: 17-Jul-2002; LatestRevisionNote: Re-released for DXP Platform.; Publisher: Altium Limited
footprint PLD-14-3D (Connector; Header; 7x2 Position)
pins: 1, 2, 3, 4, 5, 6, 7, 8, 9, 10, 11, 12, 13, 14

## PLD-14L
designator P?  (value not drawn)
Header, 7-Pin, Dual row; LatestRevisionDate: 17-Jul-2002; LatestRevisionNote: Re-released for DXP Platform.; Publisher: Altium Limited
footprint PLD-14RL1 (Connector; Header; 7x2 Position)
pins: 1, 2, 3, 4, 5, 6, 7, 8, 9, 10, 11, 12, 13, 14

## PLD-16
designator P?  (value not drawn)
Header, 8-Pin, Dual row; LatestRevisionDate: 17-Jul-2002; LatestRevisionNote: Re-released for DXP Platform.; Publisher: Altium Limited
footprint PLD-16-3D (Connector; Header; 8x2 Position)
pins: 1, 2, 3, 4, 5, 6, 7, 8, 9, 10, 11, 12, 13, 14, 15, 16

## PLD-16L
designator P?  (value not drawn)
Header, 8-Pin, Dual row; LatestRevisionDate: 17-Jul-2002; LatestRevisionNote: Re-released for DXP Platform.; Publisher: Altium Limited
footprint PLD-16RL1 (Connector; Header; 8x2 Position)
pins: 1, 2, 3, 4, 5, 6, 7, 8, 9, 10, 11, 12, 13, 14, 15, 16

## PLD-18
designator P?  (value not drawn)
Header, 9-Pin, Dual row; LatestRevisionDate: 17-Jul-2002; LatestRevisionNote: Re-released for DXP Platform.; Publisher: Altium Limited
footprint PLD-18-3D (Connector; Header; 9x2 Position)
pins: 1, 2, 3, 4, 5, 6, 7, 8, 9, 10, 11, 12, 13, 14, 15, 16, 17, 18

## PLD-18L
designator P?  (value not drawn)
Header, 9-Pin, Dual row; LatestRevisionDate: 17-Jul-2002; LatestRevisionNote: Re-released for DXP Platform.; Publisher: Altium Limited
footprint PLD-18RL1 (Connector; Header; 9x2 Position)
pins: 1, 2, 3, 4, 5, 6, 7, 8, 9, 10, 11, 12, 13, 14, 15, 16, 17, 18

## PLD-20
designator P?  (value not drawn)
Header, 10-Pin, Dual row; LatestRevisionDate: 17-Jul-2002; LatestRevisionNote: Re-released for DXP Platform.; Publisher: Altium Limited
footprint PLD-20-3D (Connector; Header; 10x2 Position)
pins: 1, 2, 3, 4, 5, 6, 7, 8, 9, 10, 11, 12, 13, 14, 15, 16, 17, 18, 19, 20

## PLD-20L
designator P?  (value not drawn)
Header, 10-Pin, Dual row; LatestRevisionDate: 17-Jul-2002; LatestRevisionNote: Re-released for DXP Platform.; Publisher: Altium Limited
footprint PLD-20RL1 (Connector; Header; 10x2 Position)
pins: 1, 2, 3, 4, 5, 6, 7, 8, 9, 10, 11, 12, 13, 14, 15, 16, 17, 18, 19, 20

## PLD-22
designator P?  (value not drawn)
Header, 11-Pin, Dual row; LatestRevisionDate: 17-Jul-2002; LatestRevisionNote: Re-released for DXP Platform.; Publisher: Altium Limited
footprint PLD-22-3D (Connector; Header; 11x2 Position)
pins: 1, 2, 3, 4, 5, 6, 7, 8, 9, 10, 11, 12, 13, 14, 15, 16, 17, 18, 19, 20, 21, 22

## PLD-22L
designator P?  (value not drawn)
Header, 11-Pin, Dual row; LatestRevisionDate: 17-Jul-2002; LatestRevisionNote: Re-released for DXP Platform.; Publisher: Altium Limited
footprint PLD-22RL1 (Connector; Header; 11x2 Position)
pins: 1, 2, 3, 4, 5, 6, 7, 8, 9, 10, 11, 12, 13, 14, 15, 16, 17, 18, 19, 20, 21, 22

## PLD-24
designator P?  (value not drawn)
Header, 12-Pin, Dual row; LatestRevisionDate: 17-Jul-2002; LatestRevisionNote: Re-released for DXP Platform.; Publisher: Altium Limited
footprint PLD-24-3D (Connector; Header; 12x2 Position)
pins: 1, 2, 3, 4, 5, 6, 7, 8, 9, 10, 11, 12, 13, 14, 15, 16, 17, 18, 19, 20, 21, 22, 23, 24

## PLD-24L
designator P?  (value not drawn)
Header, 12-Pin, Dual row; LatestRevisionDate: 17-Jul-2002; LatestRevisionNote: Re-released for DXP Platform.; Publisher: Altium Limited
footprint PLD-24RL1 (Connector; Header; 12x2 Position)
pins: 1, 2, 3, 4, 5, 6, 7, 8, 9, 10, 11, 12, 13, 14, 15, 16, 17, 18, 19, 20, 21, 22, 23, 24

## PLD-26
designator P?  (value not drawn)
Header, 13-Pin, Dual row; LatestRevisionDate: 17-Jul-2002; LatestRevisionNote: Re-released for DXP Platform.; Publisher: Altium Limited
footprint PLD-26-3D (Connector; Header; 13x2 Position)
pins: 1, 2, 3, 4, 5, 6, 7, 8, 9, 10, 11, 12, 13, 14, 15, 16, 17, 18, 19, 20, 21, 22, 23, 24, 25, 26

## PLD-26L
designator P?  (value not drawn)
Header, 13-Pin, Dual row; LatestRevisionDate: 17-Jul-2002; LatestRevisionNote: Re-released for DXP Platform.; Publisher: Altium Limited
footprint PLD-26RL1 (Connector; Header; 13x2 Position)
pins: 1, 2, 3, 4, 5, 6, 7, 8, 9, 10, 11, 12, 13, 14, 15, 16, 17, 18, 19, 20, 21, 22, 23, 24, 25, 26

## PLD-28
designator P?  (value not drawn)
Header, 14-Pin, Dual row; LatestRevisionDate: 17-Jul-2002; LatestRevisionNote: Re-released for DXP Platform.; Publisher: Altium Limited
footprint PLD-28-3D (Connector; Header; 14x2 Position)
pins: 1, 2, 3, 4, 5, 6, 7, 8, 9, 10, 11, 12, 13, 14, 15, 16, 17, 18, 19, 20, 21, 22, 23, 24, 25, 26, 27, 28

## PLD-28L
designator P?  (value not drawn)
Header, 14-Pin, Dual row; LatestRevisionDate: 17-Jul-2002; LatestRevisionNote: Re-released for DXP Platform.; Publisher: Altium Limited
footprint PLD-28RL1 (Connector; Header; 14x2 Position)
pins: 1, 2, 3, 4, 5, 6, 7, 8, 9, 10, 11, 12, 13, 14, 15, 16, 17, 18, 19, 20, 21, 22, 23, 24, 25, 26, 27, 28

## PLD-30
designator P?  (value not drawn)
Header, 15-Pin, Dual row; LatestRevisionDate: 17-Jul-2002; LatestRevisionNote: Re-released for DXP Platform.; Publisher: Altium Limited
footprint PLD-30-3D (Connector; Header; 15x2 Position)
pins: 1, 2, 3, 4, 5, 6, 7, 8, 9, 10, 11, 12, 13, 14, 15, 16, 17, 18, 19, 20, 21, 22, 23, 24, 25, 26, 27, 28, 29, 30

## PLD-30L
designator P?  (value not drawn)
Header, 15-Pin, Dual row; LatestRevisionDate: 17-Jul-2002; LatestRevisionNote: Re-released for DXP Platform.; Publisher: Altium Limited
footprint PLD-30RL1 (Connector; Header; 15x2 Position)
pins: 1, 2, 3, 4, 5, 6, 7, 8, 9, 10, 11, 12, 13, 14, 15, 16, 17, 18, 19, 20, 21, 22, 23, 24, 25, 26, 27, 28, 29, 30

## PLD-32
designator P?  (value not drawn)
Header, 16-Pin, Dual row; LatestRevisionDate: 17-Jul-2002; LatestRevisionNote: Re-released for DXP Platform.; Publisher: Altium Limited
footprint PLD-32-3D (Connector; Header; 16x2 Position)
pins: 1, 2, 3, 4, 5, 6, 7, 8, 9, 10, 11, 12, 13, 14, 15, 16, 17, 18, 19, 20, 21, 22, 23, 24, 25, 26, 27, 28, 29, 30, 31, 32

## PLD-32L
designator P?  (value not drawn)
Header, 16-Pin, Dual row; LatestRevisionDate: 17-Jul-2002; LatestRevisionNote: Re-released for DXP Platform.; Publisher: Altium Limited
footprint PLD-32RL1 (Connector; Header; 16x2 Position)
pins: 1, 2, 3, 4, 5, 6, 7, 8, 9, 10, 11, 12, 13, 14, 15, 16, 17, 18, 19, 20, 21, 22, 23, 24, 25, 26, 27, 28, 29, 30, 31, 32

## PLD-34
designator P?  (value not drawn)
Header, 17-Pin, Dual row; LatestRevisionDate: 17-Jul-2002; LatestRevisionNote: Re-released for DXP Platform.; Publisher: Altium Limited
footprint PLD-34-3D (Connector; Header; 17x2 Position)
pins: 1, 2, 3, 4, 5, 6, 7, 8, 9, 10, 11, 12, 13, 14, 15, 16, 17, 18, 19, 20, 21, 22, 23, 24, 25, 26, 27, 28, 29, 30, 31, 32, 33, 34

## PLD-34L
designator P?  (value not drawn)
Header, 17-Pin, Dual row; LatestRevisionDate: 17-Jul-2002; LatestRevisionNote: Re-released for DXP Platform.; Publisher: Altium Limited
footprint PLD-34RL1 (Connector; Header; 17x2 Position)
pins: 1, 2, 3, 4, 5, 6, 7, 8, 9, 10, 11, 12, 13, 14, 15, 16, 17, 18, 19, 20, 21, 22, 23, 24, 25, 26, 27, 28, 29, 30, 31, 32, 33, 34

## PLD-36
designator P?  (value not drawn)
Header, 18-Pin, Dual row; LatestRevisionDate: 17-Jul-2002; LatestRevisionNote: Re-released for DXP Platform.; Publisher: Altium Limited
footprint PLD-36-3D (Connector; Header; 18x2 Position)
pins: 1, 2, 3, 4, 5, 6, 7, 8, 9, 10, 11, 12, 13, 14, 15, 16, 17, 18, 19, 20, 21, 22, 23, 24, 25, 26, 27, 28, 29, 30, 31, 32, 33, 34, 35, 36

## PLD-36L
designator P?  (value not drawn)
Header, 18-Pin, Dual row; LatestRevisionDate: 17-Jul-2002; LatestRevisionNote: Re-released for DXP Platform.; Publisher: Altium Limited
footprint PLD-36RL1 (Connector; Header; 18x2 Position)
pins: 1, 2, 3, 4, 5, 6, 7, 8, 9, 10, 11, 12, 13, 14, 15, 16, 17, 18, 19, 20, 21, 22, 23, 24, 25, 26, 27, 28, 29, 30, 31, 32, 33, 34, 35, 36

## PLD-38
designator P?  (value not drawn)
Header, 19-Pin, Dual row; LatestRevisionDate: 17-Jul-2002; LatestRevisionNote: Re-released for DXP Platform.; Publisher: Altium Limited
footprint PLD-38-3D (Connector; Header; 19x2 Position)
pins: 1, 2, 3, 4, 5, 6, 7, 8, 9, 10, 11, 12, 13, 14, 15, 16, 17, 18, 19, 20, 21, 22, 23, 24, 25, 26, 27, 28, 29, 30, 31, 32, 33, 34, 35, 36, 37, 38

## PLD-38L
designator P?  (value not drawn)
Header, 19-Pin, Dual row; LatestRevisionDate: 17-Jul-2002; LatestRevisionNote: Re-released for DXP Platform.; Publisher: Altium Limited
footprint PLD-38RL1 (Connector; Header; 19x2 Position)
pins: 1, 2, 3, 4, 5, 6, 7, 8, 9, 10, 11, 12, 13, 14, 15, 16, 17, 18, 19, 20, 21, 22, 23, 24, 25, 26, 27, 28, 29, 30, 31, 32, 33, 34, 35, 36, 37, 38

## PLD-40
designator P?  (value not drawn)
Header, 20-Pin, Dual row; LatestRevisionDate: 17-Jul-2002; LatestRevisionNote: Re-released for DXP Platform.; Publisher: Altium Limited
footprint PLD-40-3D (Connector; Header; 20x2 Position)
pins: 1, 2, 3, 4, 5, 6, 7, 8, 9, 10, 11, 12, 13, 14, 15, 16, 17, 18, 19, 20, 21, 22, 23, 24, 25, 26, 27, 28, 29, 30, 31, 32, 33, 34, 35, 36, 37, 38, 39, 40

## PLD-40L
designator P?  (value not drawn)
Header, 20-Pin, Dual row; LatestRevisionDate: 17-Jul-2002; LatestRevisionNote: Re-released for DXP Platform.; Publisher: Altium Limited
footprint PLD-40RL1 (Connector; Header; 20x2 Position)
pins: 1, 2, 3, 4, 5, 6, 7, 8, 9, 10, 11, 12, 13, 14, 15, 16, 17, 18, 19, 20, 21, 22, 23, 24, 25, 26, 27, 28, 29, 30, 31, 32, 33, 34, 35, 36, 37, 38, 39, 40

## PLS-1
designator P?  (value not drawn)
Header, 1-Pin; LatestRevisionDate: 17-Jul-2002; LatestRevisionNote: Re-released for DXP Platform.; Publisher: Altium Limited
footprint PLS-1-3D (Connector; Header; 1 Position)
pins: 1

## PLS-2
designator P?  (value not drawn)
Header, 2-Pin; LatestRevisionDate: 17-Jul-2002; LatestRevisionNote: Re-released for DXP Platform.; Publisher: Altium Limited
footprint PLS-2-3D (Connector; Header; 2 Position)
pins: 1, 2

## PLS-3
designator P?  (value not drawn)
Header, 3-Pin; LatestRevisionDate: 17-Jul-2002; LatestRevisionNote: Re-released for DXP Platform.; Publisher: Altium Limited
footprint PLS-3-3D (Connector; Header; 3 Position)
pins: 1, 2, 3

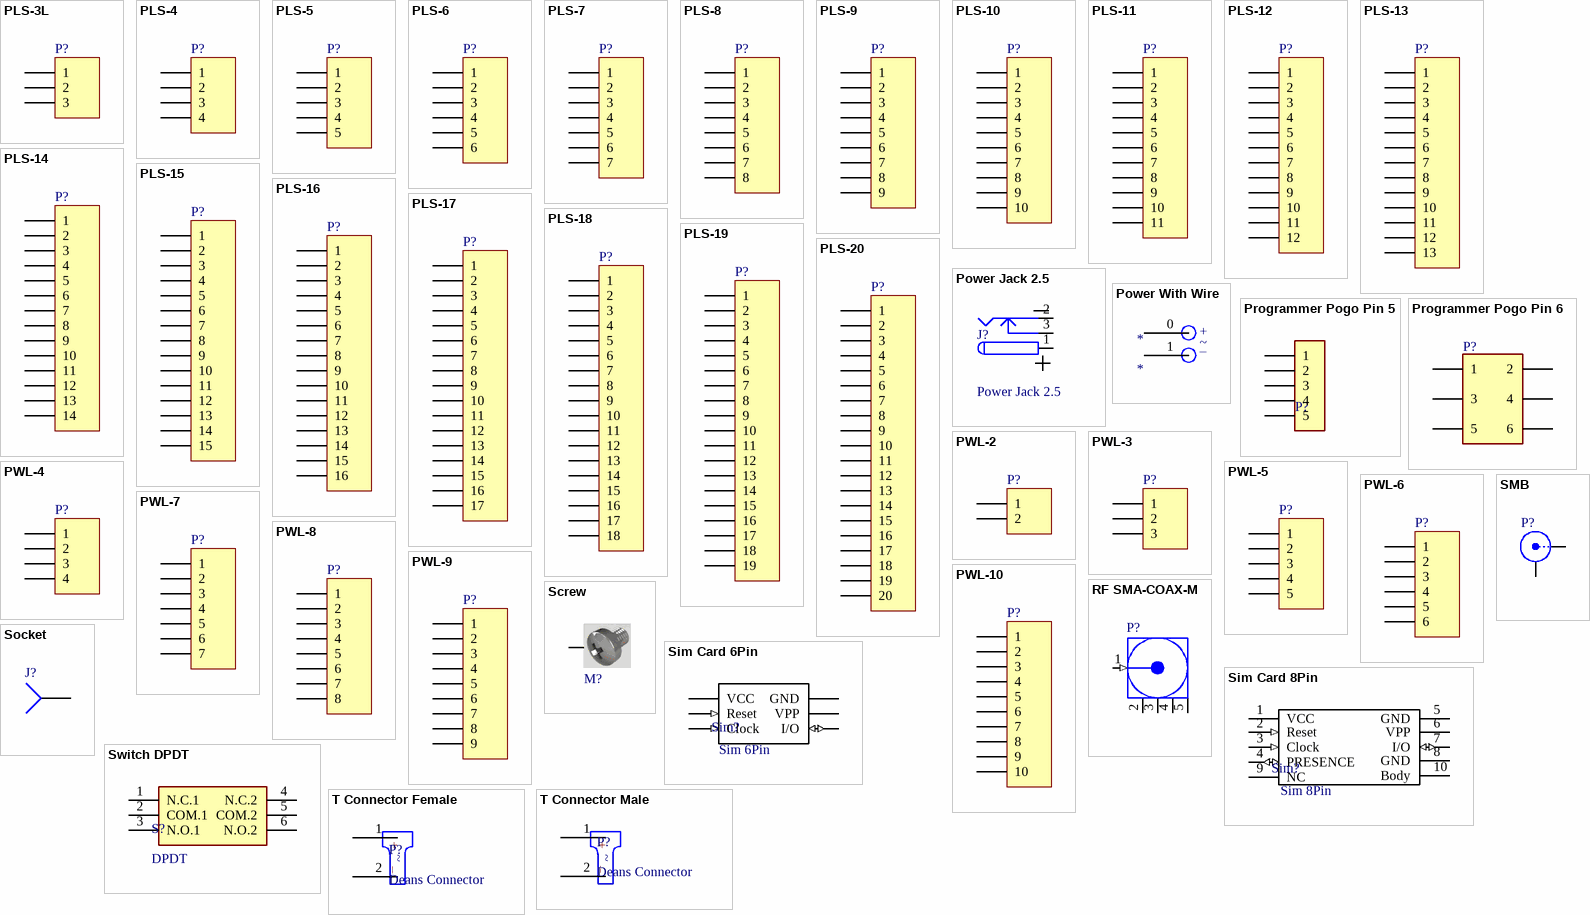
[diagram p4: symbols PLS-3L to T Connector Male]

## PLS-3L
designator P?  (value not drawn)
Header, 3-Pin
footprint PLS-3L-3D (Connector; Header; 3 Position)
pins: 1, 2, 3

## PLS-4
designator P?  (value not drawn)
Header, 4-Pin; LatestRevisionDate: 17-Jul-2002; LatestRevisionNote: Re-released for DXP Platform.; Publisher: Altium Limited
footprint PLS-4-3D (Connector; Header; 4 Position)
pins: 1, 2, 3, 4

## PLS-5
designator P?  (value not drawn)
Header, 5-Pin; LatestRevisionDate: 17-Jul-2002; LatestRevisionNote: Re-released for DXP Platform.; Publisher: Altium Limited
footprint PLS-5-3D (Connector; Header; 5 Position)
pins: 1, 2, 3, 4, 5

## PLS-6
designator P?  (value not drawn)
Header, 6-Pin; LatestRevisionDate: 17-Jul-2002; LatestRevisionNote: Re-released for DXP Platform.; Publisher: Altium Limited
footprint PLS-6-3D (Connector; Header; 4 Position)
pins: 1, 2, 3, 4, 5, 6

## PLS-7
designator P?  (value not drawn)
Header, 7-Pin; LatestRevisionDate: 17-Jul-2002; LatestRevisionNote: Re-released for DXP Platform.; Publisher: Altium Limited
footprint PLS-7-3D (Connector; Header; 7 Position)
pins: 1, 2, 3, 4, 5, 6, 7